# Altium schematic symbol library DIP Switch Arrays.SchLib: 2 symbols
Pins are listed as number, name and electrical type; pins without a type are passive.

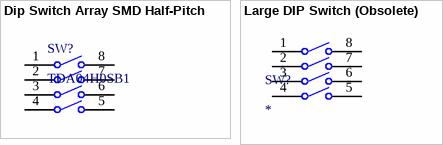
[diagram p0: symbols Dip Switch Array SMD Half-Pitch to Large DIP Switch (Obsolete)]

## Dip Switch Array SMD Half-Pitch
designator SW?, comment TDA04H0SB1
Ultra-Miniature Surface Mount Half-Pitch DIP Switch, 25 mA, 24 V, -40 to 85 degC, 8-Pin SMD, RoHS, Tube; Contact Current Rating: 100 mA; Throw Configuration: SPST; Voltage Rating (DC): 24 V; Max Contact Resistance: 100 mohm; Max Current Rating: 25 mA; REACH SVHC: No SVHC; DatasheetVersion: 02/2016; Case\Package: DIP; Package Quantity: 70; Lead Pitch: 1.27 mm; Contact Plating: Gold; Packaging: Rail/Tube; Contact Finish: Gold; Mount: Surface Mount; Height: 2.3 mm; Contact Material: Copper; Max Operating Temperature: 85 degC; Max Voltage Rating (DC): 24 V; ComponentLink1URL: https://www.ckswitches.com/media/1328/tda.pdf; PackageDescription: 8-Pin Surface Mount Device, Body 6.21 x 6.2 mm, Pitch 1.27 mm; Radiation Hardening: No; ComponentLink1Description: Datasheet Link; Current Rating: 100 mA; RoHSCompliant: true; PackageReference: TDA04H0SB1R; Min Operating Temperature: -40 degC; Pins: 4; Mounting Technology: Surface Mount; Length: 6.21 mm; Digi-Key_Part_Number: CKN9065-ND; ComponentLink2Description: Digi-Key_Purchase_URL; ComponentLink2URL: https://www.digikey.com/en/products/detail/c-k/TDA04H0SB1/1083755
footprint CKCP-TDA04H0SB1R_V (SMD, 8-Leads, Body 6.21x6.2mm, Pitch 1.27mm)
pins: 1, 2, 3, 4, 5, 6, 7, 8

## Large DIP Switch (Obsolete)
designator SW?
SOP254P991X385-8N; Part Number: CKN9065-ND; ComponentLink1Description: Digi-Key_Purchase_URL; ComponentLink1URL: https://www.digikey.com/product-detail/en/c-k/TDA04H0SB1/CKN9065-ND/1083755; ComponentLink2Description: Datasheet Link; ComponentLink2URL: https://www.ckswitches.com/media/1328/tda.pdf
footprint SOP254P991X385-8N
pins: 1, 2, 3, 4, 5, 6, 7, 8